# Altium footprint library G5NB1A4DC5.PcbLib: 1 footprints
Each footprint in its own frame and in the unit in brackets; x right, y up, seen from the top. Pads: shape width x height; smd on the part's side, far side on the other; paste and mask are expansions set on the pad; w line width, h text height; cw(c..) or ccw(c..) is an arc to the next point about the centre after c.
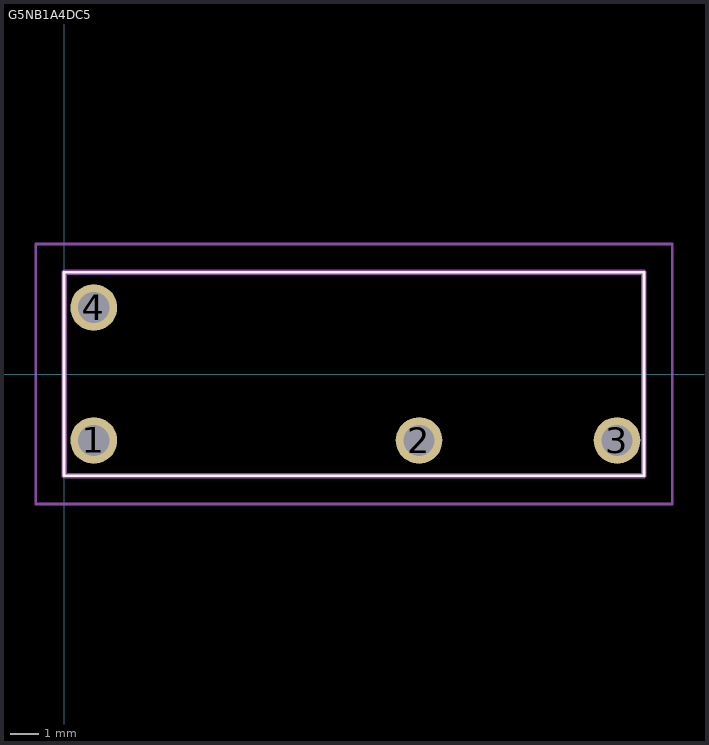
[diagram p0: the footprint, top view; thin cyan lines are the x and y axes]

## G5NB1A4DC5 [mm]
pads (4):
  round 1.65 hole 1.1: 1(1.05,-2.35) 2(12.55,-2.35) 3(19.55,-2.35) 4(1.05,2.35)
Top Overlay:
  lines w0.1: 0,-3.6 20.5,-3.6 20.5,3.6 0,3.6 0,-3.6
Mechanical 15:
  lines w0.2: 0,-3.6 20.5,-3.6 20.5,3.6 0,3.6 0,-3.6
Mechanical 20:
  lines w0.1: -1,-4.6 21.5,-4.6 21.5,4.6 -1,4.6 -1,-4.6
3D body "G5NB-1A-E-HA_DC24__N__A_.stp": height 5.8, standoff -4.65, extent -10,-3.376 10,3.376